# Altium schematic symbol library Liv_Flo_Sign.SchLib: 3 symbols
Pins are listed as number, name and electrical type; pins without a type are passive.

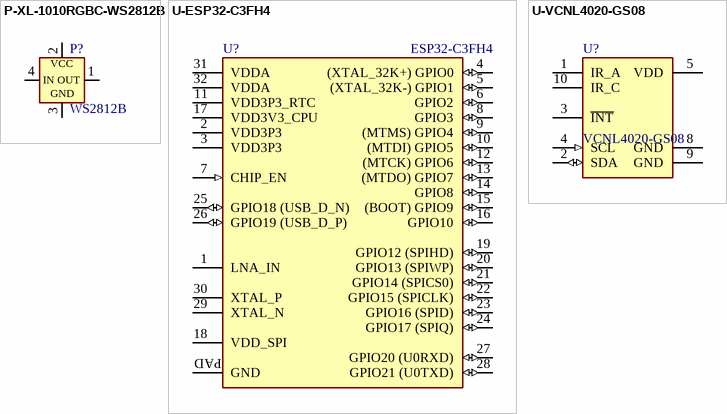
[diagram p0: symbols P-XL-1010RGBC-WS2812B to U-VCNL4020-GS08]

## P-XL-1010RGBC-WS2812B
designator P?, comment WS2812B
Smart RGB-LED; Component Value: XL-1010RGBC-WS2812B; JLC-Parts: C5349953; ComponentLink1Description: Datasheet; ComponentLink1URL: https://wmsc.lcsc.com/wmsc/upload/file/pdf/v2/lcsc/2402181502_XINGLIGHT-XL-1010RGBC-WS2812B_C5349953.pdf; Component Description: Smart RGB-LED; Unit Price: 0.05
footprint SMD LED WS2812B-3528 (SMD_LED_RED)
pins: 1 OUT, 2 VCC (power), 3 GND (power), 4 IN

## U-ESP32-C3FH4
designator U?, comment ESP32-C3FH4
2.4 GHz Wi­Fi + Bluetooth® LE SoC; Digikey: 1904-ESP32-C3FH4CT-ND; Mouser: 356-ESP32-C3FH4; ComponentLink1Description: Datasheet; ComponentLink1URL: https://www.lcsc.com/datasheet/lcsc_datasheet_2312201733_Espressif-Systems-ESP32-C3FH4_C2858491.pdf; JLC-Parts: C2858491; Component Description: 2.4 GHz Wi­Fi + Bluetooth® LE SoC; Component Value: ESP32-C3FH4; Unit Price: 1.57
footprint SMD IC QFN-56 (0.4mm) (QFN, 48-Leads, Body 7x7mm, Pitch 0.5mm, IPC Medium Density)
pins: 1 LNA_IN, 2 VDD3P3 (power), 3 VDD3P3 (power), 4 (XTAL_32K+) GPIO0 (io), 5 (XTAL_32K-) GPIO1 (io), 6 GPIO2 (io), 7 CHIP_EN (in), 8 GPIO3 (io), 9 (MTMS) GPIO4 (io), 10 (MTDI) GPIO5 (io), 11 VDD3P3_RTC (power), 12 (MTCK) GPIO6 (io), 13 (MTDO) GPIO7 (io), 14 GPIO8 (io), 15 (BOOT) GPIO9 (io), 16 GPIO10 (io), 17 VDD3V3_CPU (power), 18 VDD_SPI (power), 19 GPIO12 (SPIHD) (io), 20 GPIO13 (SPIWP) (io), 21 GPIO14 (SPICS0) (io), 22 GPIO15 (SPICLK) (io), 23 GPIO16 (SPID) (io), 24 GPIO17 (SPIQ) (io), 25 GPIO18 (USB_D_N) (io), 26 GPIO19 (USB_D_P) (io), 27 GPIO20 (U0RXD) (io), 28 GPIO21 (U0TXD) (io), 29 XTAL_N, 30 XTAL_P, 31 VDDA (power), 32 VDDA (power), PAD GND (power)

## U-VCNL4020-GS08
designator U?, comment VCNL4020-GS08
Proximity and Ambient Light Sensor; Digikey: VCNL4020-GS08CT-ND; Farnell: 2251457; Mouser: 78-VCNL4020-GS08; ComponentLink1Description: Datasheet; ComponentLink1URL: https://www.vishay.com/docs/84276/veml6040.pdf; Component Description: Proximity and Ambient Light Sensor; Component Value: VCNL4020-GS08; JLC-Parts: C511034; Unit Price: 1.03
footprint SMD Color Sensor (VEML6040)
pins: 1 IR_A, 2 SDA (io), 3 ~{INT} (oc), 4 SCL (in), 5 VDD (power), 6 NC hidden, 7 NC hidden, 8 GND (power), 9 GND (power), 10 IR_C